# Altium integrated library Switch.IntLib: 2 symbols
Pins are listed as number, name and electrical type; pins without a type are passive.

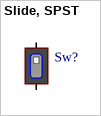
[diagram p0: symbol Slide, SPST]

## Slide, SPST
designator Sw?  (value not drawn)
Component Category: Switch; ComponentLink1Description: Datasheet; ComponentLink1URL: *; ComponentLink2Description: Supplier Link; ComponentLink2URL: *; Supplier: *; Supplier Part Number: *; Operating Temperature, Min: -*℃; Operating Temperature, Max: +*℃; Quantity, Min: *; Quantity, Max: *; Price, Min: *; Supplier Currency: *; Price, Max: *; Supplier Link: *; Component Type: Slide; Manufacturer: *; Package: *; Manufacturer Part Number: *
footprint Slide, SPST - C&K, SDA01HxS
pins: A, B


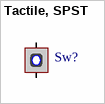
[diagram p1: symbol Tactile, SPST]

## Tactile, SPST
designator Sw?  (value not drawn)
Component Category: Switch; ComponentLink1Description: Datasheet; ComponentLink1URL: *; ComponentLink2Description: Supplier Link; ComponentLink2URL: *; Supplier: *; Supplier Part Number: *; Operating Temperature, Min: -*℃; Operating Temperature, Max: +*℃; Quantity, Min: *; Quantity, Max: *; Price, Min: *; Supplier Currency: *; Price, Max: *; Supplier Link: *; Component Type: Tactile; Manufacturer: *; Package: *; Manufacturer Part Number: *
footprint Tactile, SPST - Panasonic, EVQQ2
pins: A, B